# Altium footprint library SLH-010-1.50-G-D-A.PcbLib: 1 footprints
Each footprint in its own frame and in the unit in brackets; x right, y up, seen from the top. Pads: shape width x height; smd on the part's side, far side on the other; paste and mask are expansions set on the pad; w line width, h text height; cw(c..) or ccw(c..) is an arc to the next point about the centre after c.
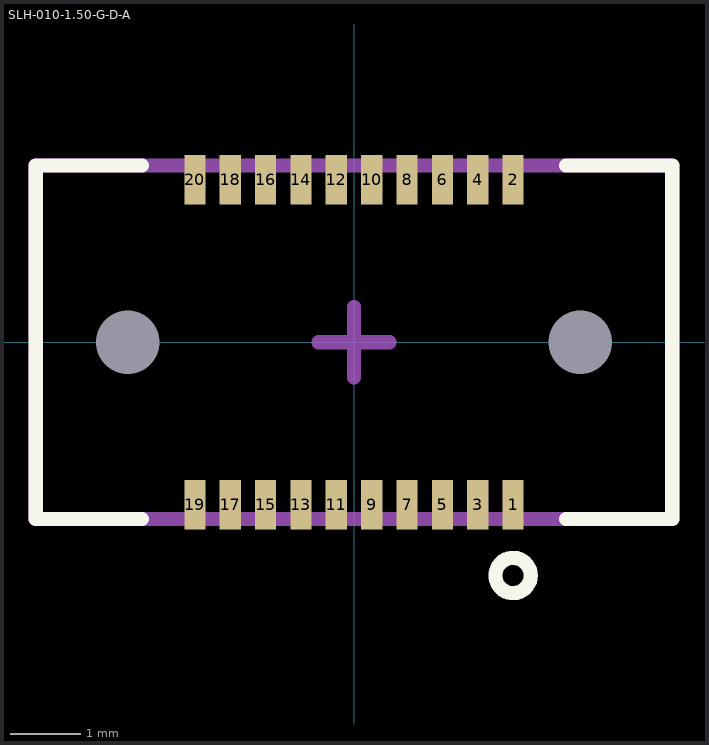
[diagram p0: the footprint, top view; thin cyan lines are the x and y axes]

## SLH-010-1.50-G-D-A [mm]
pads (22):
  rect 0.3x0.7 smd: 1(2.25,-2.3) 2(2.25,2.3) 3(1.75,-2.3) 4(1.75,2.3) 5(1.25,-2.3) 6(1.25,2.3) 7(0.75,-2.3) 8(0.75,2.3) 9(0.25,-2.3) 10(0.25,2.3) 11(-0.25,-2.3) 12(-0.25,2.3) 13(-0.75,-2.3) 14(-0.75,2.3) 15(-1.25,-2.3) 16(-1.25,2.3) 17(-1.75,-2.3) 18(-1.75,2.3) 19(-2.25,-2.3) 20(-2.25,2.3)
  round 0 hole 0.9 unplated: ""(-3.2,0) ""(3.2,0)
Top Overlay:
  circle w0.2: c2.25,-3.3 r0.25
  lines w0.2: -3,-2.5 -4.5,-2.5 -4.5,2.5 -3,2.5 ; 3,-2.5 4.5,-2.5 4.5,2.5 3,2.5
Mechanical 13:
  lines w0.2: -4.5,-2.5 -4.5,2.5 -2.5,2.5 4.5,2.5 4.5,-2.5 -4.5,-2.5
Mechanical 15:
  lines w0.2: 0,0.5 0,-0.5 0,0 -0.5,0 0.5,0
3D body "SLH-010-1.50-G-D-A-K.stp": height 1.78, standoff -0.73, extent -4.53,-2.5 4.53,2.5